# Altium footprint library KC2520B48.PcbLib: 1 footprints
Each footprint in its own frame and in the unit in brackets; x right, y up, seen from the top. Pads: shape width x height; smd on the part's side, far side on the other; paste and mask are expansions set on the pad; w line width, h text height; cw(c..) or ccw(c..) is an arc to the next point about the centre after c.
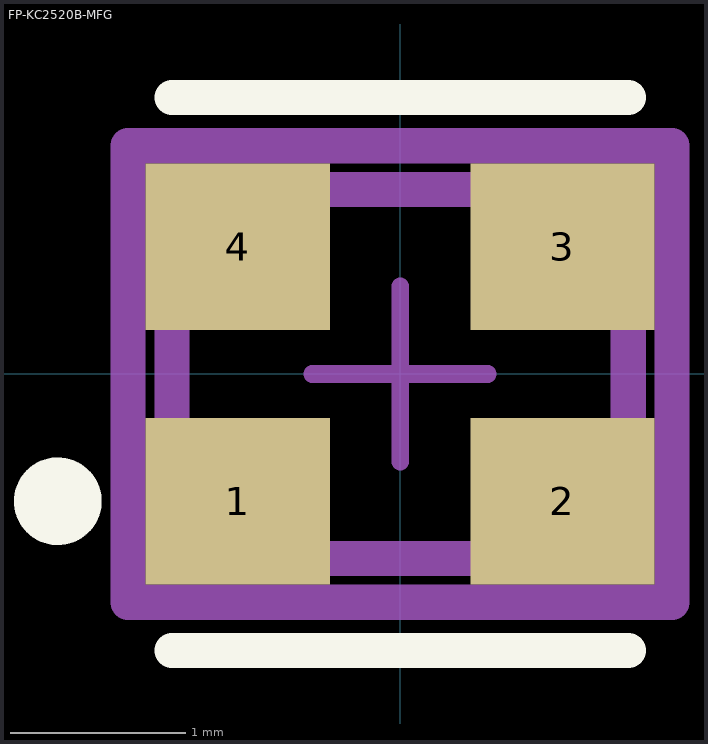
[diagram p0: the footprint, top view; thin cyan lines are the x and y axes]

## FP-KC2520B-MFG [mm]
pads (4):
  rect 1.05x0.95 smd paste+0 mask+0: 1(-0.925,-0.725) 2(0.925,-0.725) 3(0.925,0.725) 4(-0.925,0.725)
Top Overlay:
  circle w0.25: c-1.95,-0.725 r0.125
  lines w0.2: -1.3,-1.575 1.3,-1.575 ; -1.3,1.575 1.3,1.575
Mechanical 5:
  lines w0.2: -1.55,-1.3 -1.55,1.3 1.55,1.3 1.55,-1.3 -1.55,-1.3
  text ".Designator" at 0,0.188 h1
Mechanical 13:
  lines w0.2: -1.3,-1.05 -1.3,1.05 1.3,1.05 1.3,-1.05 -1.3,-1.05
Mechanical 15:
  lines w0.2: -1.55,-1.3 -1.55,1.3 1.55,1.3 1.55,-1.3 -1.55,-1.3
Mechanical 16:
  lines w0.1: -0.5,0 0.5,0 ; 0,-0.5 0,0.5
3D body "Crys_Kyocera_KC2520K22_5792C1GE00_eec.STEP": height 0.25, standoff 0, extent -1.55,-1.3 1.55,1.3